# EAGLE library part I2C-EEPROM-256K (library _RoweTel)
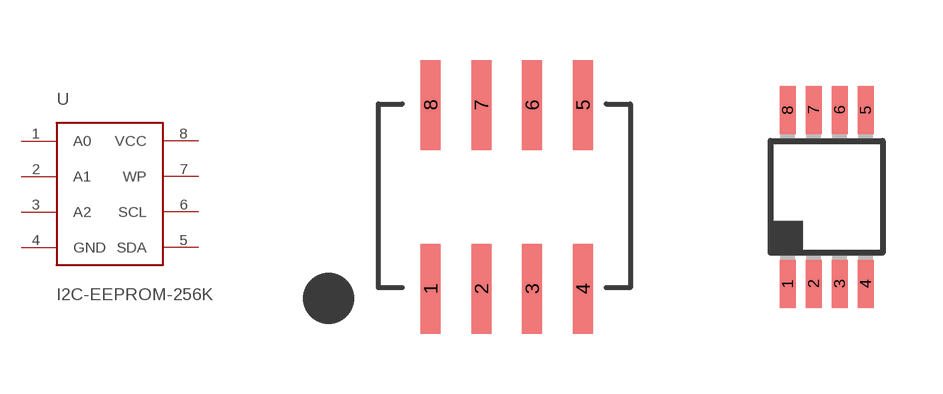
[diagram p15: symbol with the pads of SOIC8; footprints SOIC8, MSOP-8]

Designator prefix U

## I2C-EEPROM-256K  [SOIC8]
1  A0
2  A1
3  A2
4  GND
5  SDA
6  SCL
7  WP
8  VCC

## I2C-EEPROM-256KMSOP-8  [MSOP-8]
Pads as for SOIC8

## Footprint SOIC8 (pad centres in mm)
smd 0.5 x 2.25: 1 -1.9,-2.3; 2 -0.63,-2.3; 3 0.64,-2.3; 4 1.91,-2.3; 5 1.91,2.3; 6 0.64,2.3; 7 -0.63,2.3; 8 -1.9,2.3

## Footprint MSOP-8 (pad centres in mm)
smd 0.4 x 1.2: 1 -0.975,-2.175; 2 -0.325,-2.175; 3 0.325,-2.175; 4 0.975,-2.175; 5 0.975,2.175; 6 0.325,2.175; 7 -0.325,2.175; 8 -0.975,2.175